# EAGLE library part NORCOMP-CON-DB25-190-025-263R001 (library duraTerm)
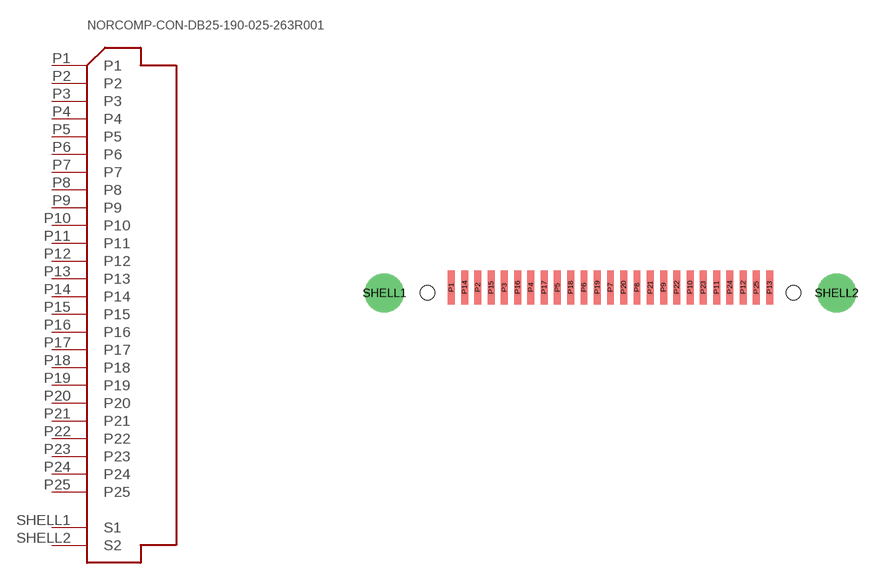
[diagram p6: symbol with the pads of NORCOMP-CON-DB25-190-025-263R001; footprint NORCOMP-CON-DB25-190-025-263R001]

Designator prefix J

## NORCOMP-CON-DB25-190-025-263R001  [NORCOMP-CON-DB25-190-025-263R001]
P1  P1
P2  P2
P3  P3
P4  P4
P5  P5
P6  P6
P7  P7
P8  P8
P9  P9
P10  P10
P11  P11
P12  P12
P13  P13
P14  P14
P15  P15
P16  P16
P17  P17
P18  P18
P19  P19
P20  P20
P21  P21
P22  P22
P23  P23
P24  P24
P25  P25
SHELL1  S1
SHELL2  S2

## Footprint NORCOMP-CON-DB25-190-025-263R001 (pad centres in mm)
smd 0.8 x 3.5: P1 -16.56,0; P2 -13.8,0; P3 -11.04,0; P4 -8.28,0; P5 -5.52,0; P6 -2.76,0; P7 0,0; P8 2.76,0; P9 5.52,0; P10 8.28,0; P11 11.04,0; P12 13.8,0; P13 16.56,0; P14 -15.18,0; P15 -12.42,0; P16 -9.66,0; P17 -6.9,0; P18 -4.14,0; P19 -1.38,0; P20 1.38,0; P21 4.14,0; P22 6.9,0; P23 9.66,0; P24 12.42,0; P25 15.18,0
drill 3.05: SHELL1 -23.52,-0.55; SHELL2 23.52,-0.55
hole 1.5 at -19.03,-0.55
hole 1.5 at 19.03,-0.55